# Altium footprint library diodes.PcbLib: 3 footprints
Each footprint in its own frame and in the unit in brackets; x right, y up, seen from the top. Pads: shape width x height; smd on the part's side, far side on the other; paste and mask are expansions set on the pad; w line width, h text height; cw(c..) or ccw(c..) is an arc to the next point about the centre after c.
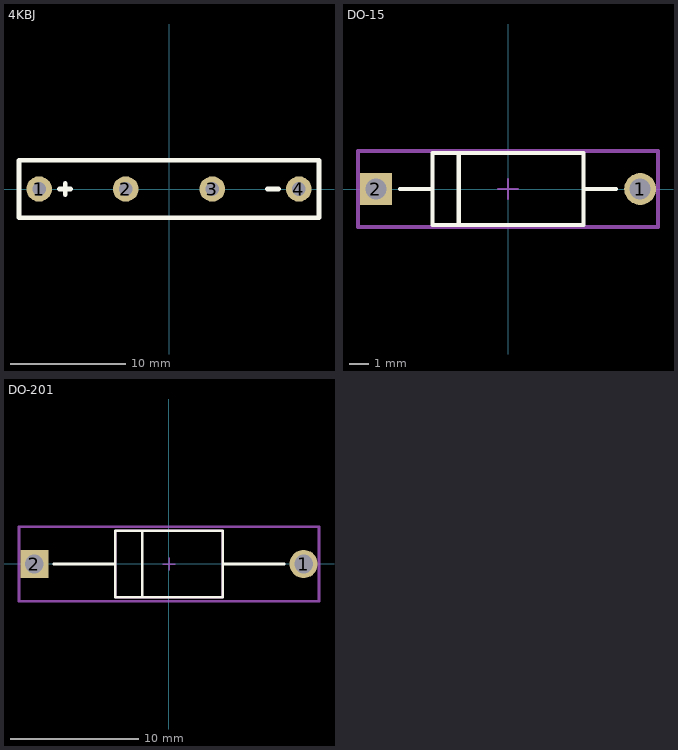
[diagram p0: the footprints below, top view; thin cyan lines are the x and y axes]

## 4KBJ [mm]
pads (4):
  round 2.2 hole 1.2: 1(-11.25,0) 2(-3.75,0) 3(3.75,0) 4(11.25,0)
Top Overlay:
  lines w0.4: -9.5,0 -8.5,0 ; -9,-0.5 -9,0.5 -9,0 ; 8.5,0 9.5,0 ; -13,-2.5 13,-2.5 13,2.5 -13,2.5 -13,-2.5

## DO-15 [mm]
pads (2):
  round 1.6 hole 1.05 paste-1000 mask+0: 1(6.638,0)
  rect 1.6x1.6 hole 1.05 paste-1000 mask+0: 2(-6.638,0)
Top Overlay:
  lines w0.2: -5.438,0 -3.8,0 ; 3.8,0 5.438,0 ; -3.8,-1.8 -3.8,1.8 3.8,1.8 3.8,-1.8 -3.8,-1.8
  lines w0.25: -2.475,-1.75 -2.475,1.775
Mechanical 10:
  lines w0.2: -7.538,-1.9 -7.538,1.9 7.538,1.9 7.538,-1.9 -7.538,-1.9
  text ".Designator" at 0,0 h1
Mechanical 12:
  lines w0.15: -3.8,-1.8 -3.8,1.8 3.8,1.8 3.8,-1.8 -3.8,-1.8
Mechanical 15:
  lines w0.1: -0.5,0 0.5,0 ; 0,-0.5 0,0.5
  lines w0.2: -7.538,-1.9 -7.538,1.9 7.538,1.9 7.538,-1.9 -7.538,-1.9
3D body "Diode_Vishay_P6KE47CA-E3-54_eec.STEP": height 0.25, standoff 0, extent -7.538,-1.9 7.538,1.9

## DO-201 [mm]
pads (2):
  round 2.2 hole 1.45 paste-1000 mask+0: 1(10.471,-0.007)
  rect 2.2x2.2 hole 1.45 paste-1000 mask+0: 2(-10.469,-0.007)
Top Overlay:
  lines w0.2: -8.969,-0.007 -4.174,-0.007 ; -2.087,-2.537 -2.087,2.523 ; 4.176,-0.007 8.971,-0.007 ; -4.174,-2.607 4.176,-2.607 4.176,2.593 -4.174,2.593 -4.174,-2.607
Mechanical 10:
  lines w0.2: -11.669,-2.907 11.671,-2.907 11.671,2.893 -11.669,2.893 -11.669,-2.907
  text ".Designator" at 0.001,-0.007 h1
Mechanical 12:
  lines w0.15: -4.174,-2.607 4.176,-2.607 4.176,2.593 -4.174,2.593 -4.174,-2.607
Mechanical 15:
  lines w0.1: -0.499,-0.007 0.501,-0.007 ; 0.001,-0.507 0.001,0.493
  lines w0.2: -11.669,-2.907 11.671,-2.907 11.671,2.893 -11.669,2.893 -11.669,-2.907
3D body "3dmodel.step": height 0.25, standoff 0, extent -11.669,-2.907 11.671,2.893